# Altium footprint library HDR2x3.PcbLib: 1 footprints
Each footprint in its own frame and in the unit in brackets; x right, y up, seen from the top. Pads: shape width x height; smd on the part's side, far side on the other; paste and mask are expansions set on the pad; w line width, h text height; cw(c..) or ccw(c..) is an arc to the next point about the centre after c.
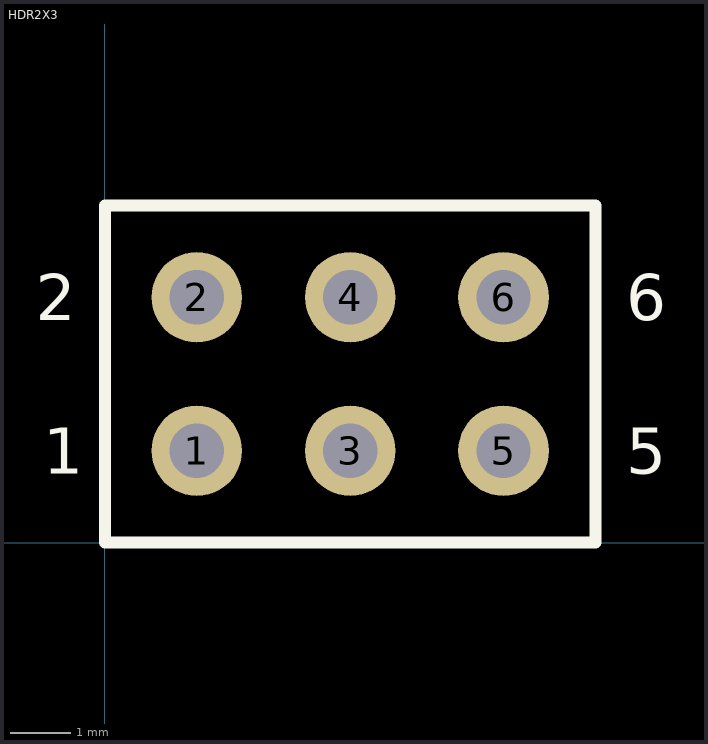
[diagram p0: the footprint, top view; thin cyan lines are the x and y axes]

## HDR2X3 [mm]
pads (6):
  round 1.5 hole 0.9: 1(1.524,1.524) 2(1.524,4.064) 3(4.064,1.524) 4(4.064,4.064) 5(6.604,1.524) 6(6.604,4.064)
Top Overlay:
  lines w0.2: 0,0 0,5.588 8.128,5.588 8.128,0 0,0
  text "6" at 8.636,3.683 h0.76
  text "5" at 8.636,1.143 h0.76
  text "2" at -1.143,3.683 h0.76
  text "1" at -1.016,1.143 h0.76
3D body "Header3.STEP": height 8.38, standoff -2.54, extent 0.259,0.264 7.879,2.804
3D body "Header3.STEP": height 8.38, standoff -2.54, extent 0.259,2.804 7.879,5.344